# EAGLE library part 61201621721 (library Wire_to_Board_Connectors_rev15d)
WR-BHD 2.54mm Male Angled Box Header, 16 Pins=>Code : Con_WTB_BHD_2.54_Male_THT_WS_61201621721 <http://katalog.we-online.de/media/thumbs2/eican/thb_Con_WTB_BHD_2.54_Male_THT_WS_6120xx21721_pf2.jpg> Details see: http://katalog.we-online.de/en/em/612_0xx_217_21 Created 2014-06-05, Karrer Zheng 2014 (C) Würth Elektronik
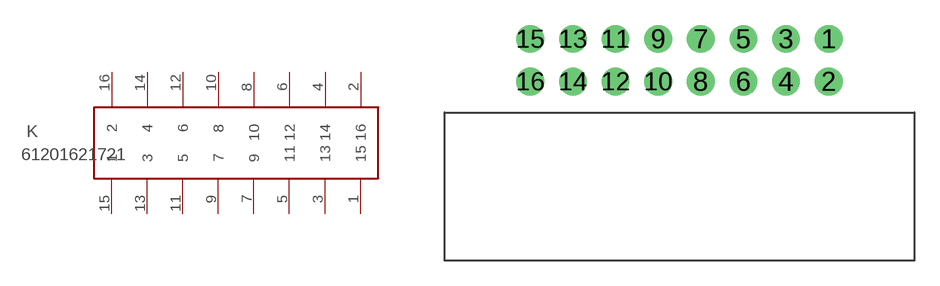
[diagram p140: symbol with the pads of 61201621721; footprint 61201621721]

Designator prefix K

## 61201621721  [61201621721]
1  15  pas
2  16  pas
3  13  pas
4  14  pas
5  11  pas
6  12  pas
7  9  pas
8  10  pas
9  7  pas
10  8  pas
11  5  pas
12  6  pas
13  3  pas
14  4  pas
15  1  pas
16  2  pas

## Footprint 61201621721 (pad centres in mm)
WR-BHD 2.54mm Male Angled Box Header, 16 Pins
drill 1.1: 1 8.89,1.27; 2 8.89,-1.27; 3 6.35,1.27; 4 6.35,-1.27; 5 3.81,1.27; 6 3.81,-1.27; 7 1.27,1.27; 8 1.27,-1.27; 9 -1.27,1.27; 10 -1.27,-1.27; 11 -3.81,1.27; 12 -3.81,-1.27; 13 -6.35,1.27; 14 -6.35,-1.27; 15 -8.89,1.27; 16 -8.89,-1.27